# Altium footprint library HyTechDevices.PCBLIB: 204 footprints (part 1 of 13)
Each footprint in its own frame and in the unit in brackets; x right, y up, seen from the top. Pads: shape width x height; smd on the part's side, far side on the other; paste and mask are expansions set on the pad; w line width, h text height; cw(c..) or ccw(c..) is an arc to the next point about the centre after c.
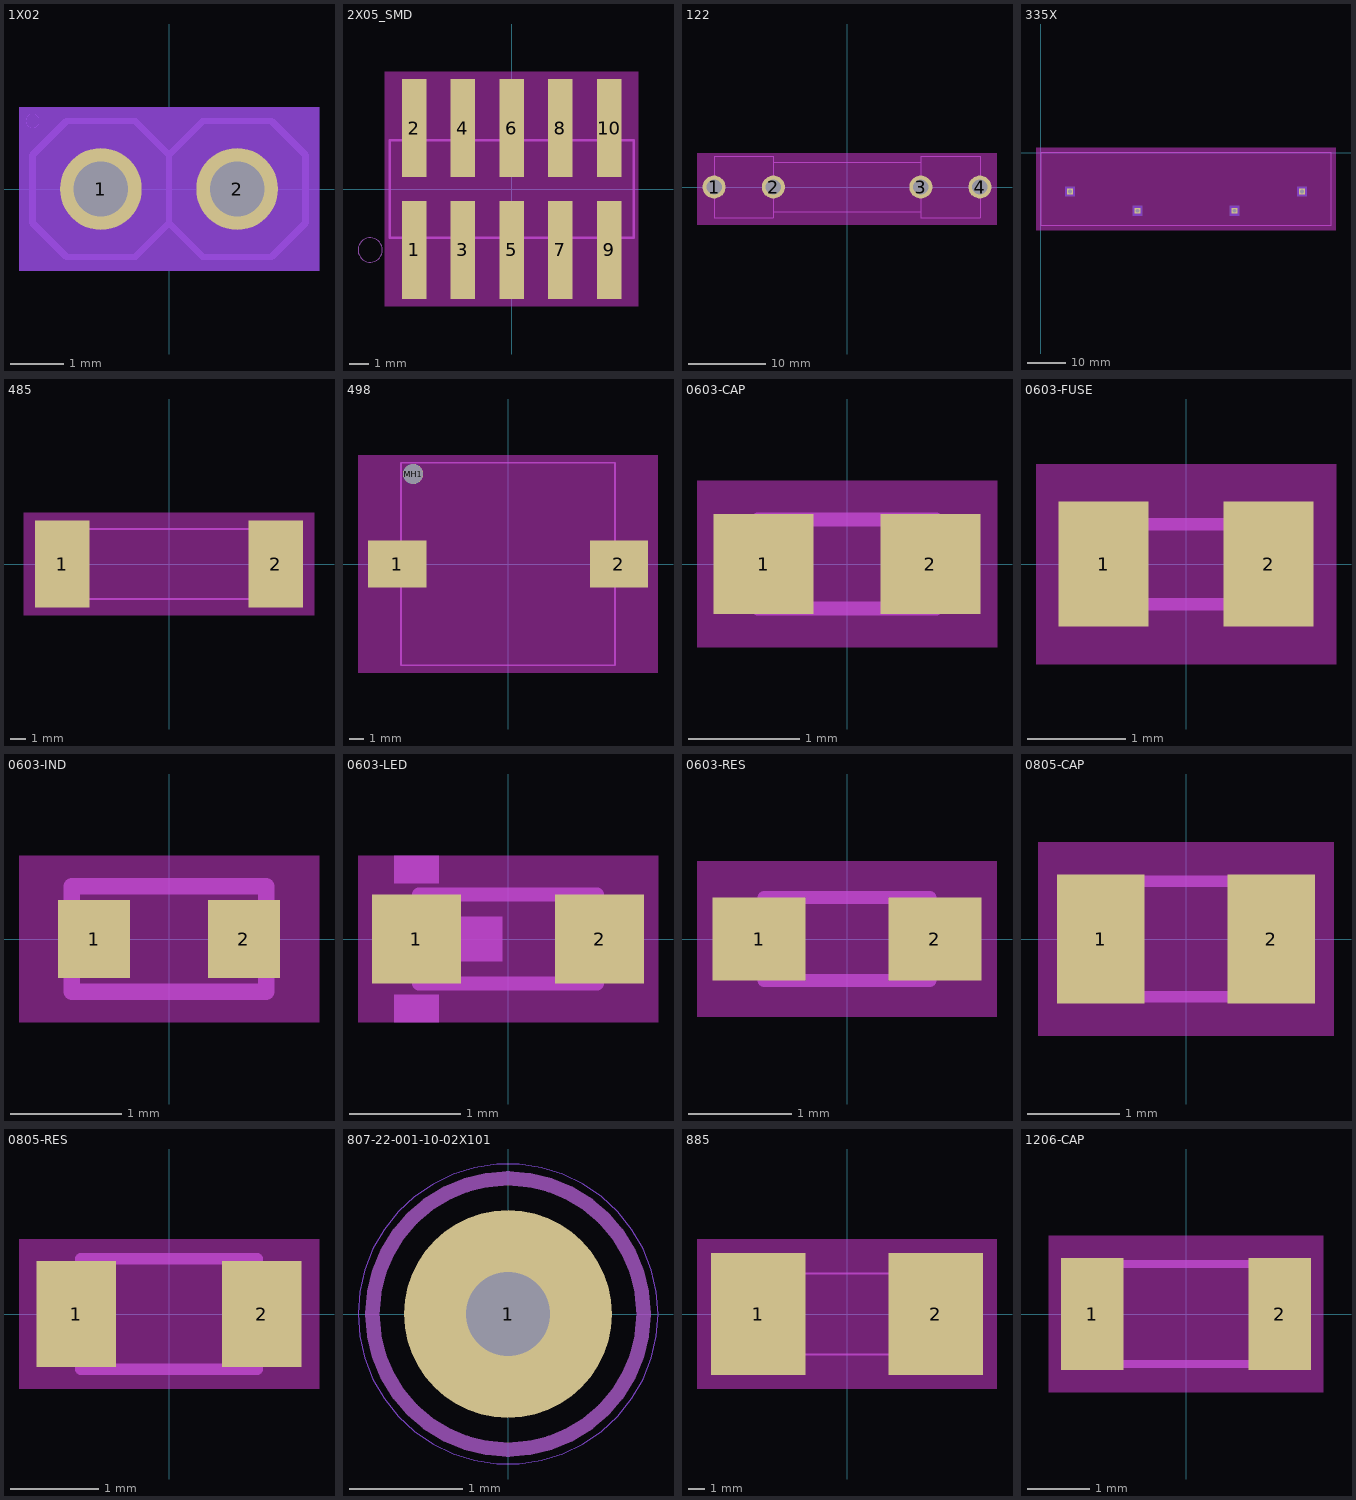
[diagram p0: the footprints below, top view; thin cyan lines are the x and y axes]

## 1X02 [mil]
pads (2):
  round 60 hole 40: 1(-50,0) 2(50,0)
Top keep-out:
  region: -110,-60 -110,60 110,60 110,-60
Bottom keep-out:
  region: -110,-60 -110,60 110,60 110,-60
tPlace:
  circle w0: c-100,50 r5
  lines w5: 0,-25 0,25 ; 0,-25 -25,-50 -75,-50 -100,-25 -100,25 -75,50 -25,50 0,25 ; 0,-25 25,-50 75,-50 100,-25 100,25 75,50 25,50 0,25

## 2X05_SMD [mil]
pads (10):
  rect 50x200 smd: 1(-200,-125) 2(-200,125) 3(-100,-125) 4(-100,125) 5(0,-125) 6(0,125) 7(100,-125) 8(100,125) 9(200,-125) 10(200,125)
Top keep-out:
  region: -260,-240 -260,240 260,240 260,-240
tPlace:
  circle w0: c-290,-125 r25
  lines w5: -250,-100 250,-100 250,100 -250,100 -250,-100

## 122 [mil]
pads (4):
  round 117 hole 78: 1(-673.5,0) 2(-373,0) 3(374,0) 4(673.5,0)
Top keep-out:
  region: -760,-190 -760,170 760,170 760,-190
tPlace:
  lines w5: -370,-125 370,-125 ; -373,125 -373,155 -673,155 -673,-155 -373,-155 -373,125 ; -373,125 374,125 ; 374,125 374,155 674,155 674,-155 374,-155 374,125

## 335X [mil]
pads (4):
  rect 60x60 / inner round 55.43 / far side rect 60x60 hole 40: 1(2700,-400) 2(2000,-600) 3(1000,-600) 4(300,-400)
Top keep-out:
  region: -50,-800 -50,50 3050,50 3050,-800
Bottom keep-out:
  region: 250,-450 250,-350 350,-350 350,-450
  region: 950,-650 950,-550 1050,-550 1050,-650
  region: 1950,-650 1950,-550 2050,-550 2050,-650
  region: 2650,-450 2650,-350 2750,-350 2750,-450
tPlace:
  lines w5: 0,-750 0,0 3000,0 3000,-750 0,-750

## 485 [mil]
pads (2):
  rect 137.8x220.47 smd: 1(-271.65,0) 2(271.65,0)
Top keep-out:
  region: -370,-130 -370,130 370,130 370,-130
tPlace:
  lines w5: -238.19,-88.58 238.19,-88.58 238.19,88.58 -238.19,88.58 -238.19,-88.58

## 498 [mil]
pads (3):
  rect 156x125 smd: 1(-296,0) 2(296,0)
  round 53 hole 53 unplated: MH1(-253,240)
Top keep-out:
  region: -400,-290 -400,290 400,290 400,-290
tPlace:
  lines w5: -285,-270 -285,270 285,270 285,-270 -285,-270
  text "+" at -450,0 h49.6
  text "â€“" at 450,0 h49.6

## 0603-CAP [mil]
pads (2):
  rect 35.43x35.43 smd: 1(-29.53,0) 2(29.53,0)
Top keep-out:
  region: -53.15,-29.53 -53.15,29.53 53.15,29.53 53.15,-29.53
tPlace:
  lines w5: -31.5,-15.75 31.5,-15.75 31.5,15.75 -31.5,15.75 -31.5,-15.75

## 0603-FUSE [mil]
pads (2):
  rect 36x50 smd: 1(-33,0) 2(33,0)
Top keep-out:
  region: -60,-40 -60,40 60,40 60,-40
tPlace:
  lines w5: -32,-16 32,-16 32,16 -32,16 -32,-16

## 0603-IND [mm]
pads (2):
  rect 0.65x0.7 smd: 1(-0.675,0) 2(0.675,0)
Top keep-out:
  region: -1.35,-0.75 -1.35,0.75 1.35,0.75 1.35,-0.75
tPlace:
  lines w0.152: -0.875,-0.475 -0.875,0.475 0.875,0.475 0.875,-0.475 -0.875,-0.475

## 0603-LED [mil]
pads (2):
  rect 31.5x31.5 smd: 1(-32.48,0) 2(32.48,0)
Top keep-out:
  region: -53.15,-29.53 -53.15,29.53 53.15,29.53 53.15,-29.53
tPlace:
  region: -17.72,-7.87 -17.72,7.87 -1.97,7.87 -1.97,-7.87
  region: -40.35,19.69 -40.35,29.53 -24.61,29.53 -24.61,19.69
  region: -40.35,-29.53 -40.35,-19.69 -24.61,-19.69 -24.61,-29.53
  lines w5: -31.5,-15.75 31.5,-15.75 31.5,15.75 -31.5,15.75 -31.5,-15.75

## 0603-RES [mil]
pads (2):
  rect 35.43x31.5 smd: 1(-33.46,0) 2(33.46,0)
Top keep-out:
  region: -57.09,-29.53 -57.09,29.53 57.09,29.53 57.09,-29.53
tPlace:
  lines w5: -31.5,-15.75 31.5,-15.75 31.5,15.75 -31.5,15.75 -31.5,-15.75

## 0805-CAP [mil]
pads (2):
  rect 37.4x55.12 smd: 1(-36.42,0) 2(36.42,0)
Top keep-out:
  region: -62.99,-41.34 -62.99,41.34 62.99,41.34 62.99,-41.34
tPlace:
  lines w5: -39.37,-24.61 39.37,-24.61 39.37,24.61 -39.37,24.61 -39.37,-24.61

## 0805-RES [mil]
pads (2):
  rect 35.43x47.24 smd: 1(-41.34,0) 2(41.34,0)
Top keep-out:
  region: -66.93,-33.46 -66.93,33.46 66.93,33.46 66.93,-33.46
tPlace:
  lines w5: -39.37,-24.61 39.37,-24.61 39.37,24.61 -39.37,24.61 -39.37,-24.61

## 807-22-001-10-02X101 [mil]
pads (1):
  round 72 hole 29: 1(0,0)
Top keep-out:
  circle w0: c0,0 r52
Bottom keep-out:
  circle w0: c0,0 r52
tPlace:
  circle w5: c0,0 r47

## 885 [mil]
pads (2):
  rect 220.47x284.65 smd: 1(-206.69,0) 2(206.69,0)
Top keep-out:
  region: -348.43,-173.82 -348.43,173.82 348.43,173.82 348.43,-173.82
  region: -96.46,-173.82 -96.46,173.82 96.46,173.82 96.46,-173.82
  region: -96.46,-173.82 -96.46,173.82 96.46,173.82 96.46,-173.82
tPlace:
  lines w5: -213.78,-94.09 -213.78,94.09 213.78,94.09 213.78,-94.09 -213.78,-94.09

## 1206-CAP [mm]
pads (2):
  rect 1x1.8 smd: 1(-1.5,0) 2(1.5,0)
Top keep-out:
  region: -2.2,-1.25 -2.2,1.25 2.2,1.25 2.2,-1.25
tPlace:
  lines w0.127: -1.6,-0.8 1.6,-0.8 1.6,0.8 -1.6,0.8 -1.6,-0.8